# Altium footprint library MX-53261.PcbLib: 6 footprints
Each footprint in its own frame and in the unit in brackets; x right, y up, seen from the top. Pads: shape width x height; smd on the part's side, far side on the other; paste and mask are expansions set on the pad; w line width, h text height; cw(c..) or ccw(c..) is an arc to the next point about the centre after c.
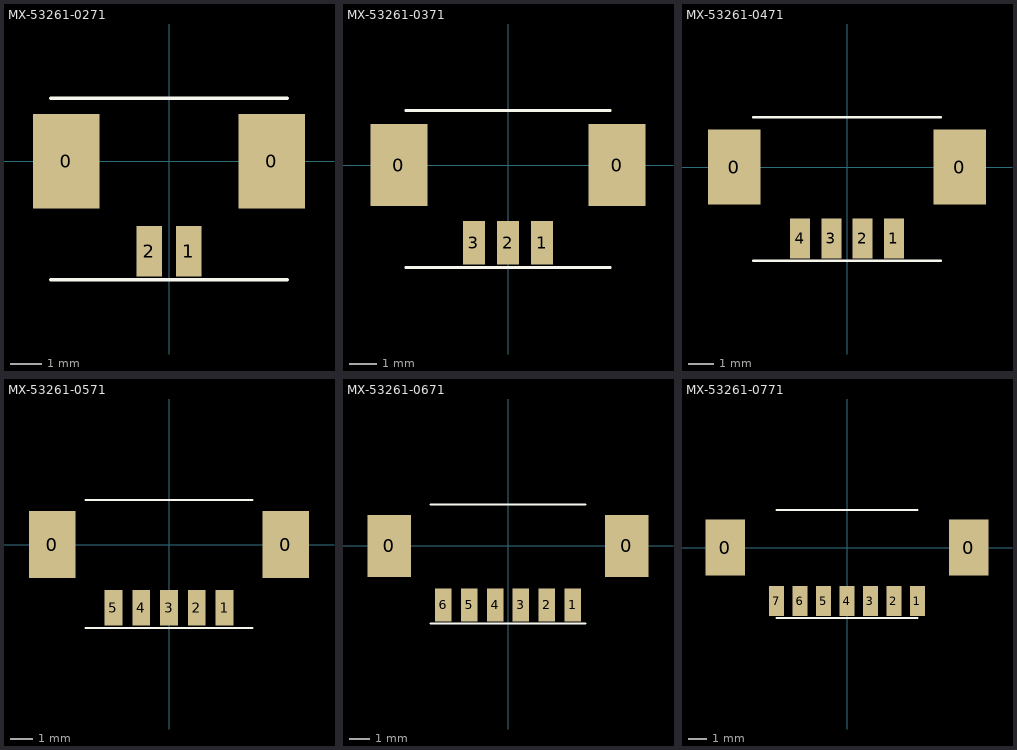
[diagram p0: the footprints below, top view; thin cyan lines are the x and y axes]

## MX-53261-0271 [mm]
pads (4):
  rect 2.1x3 smd: 0(-3.25,0) 0(3.25,0)
  rect 0.8x1.6 smd: 1(0.625,-2.85) 2(-0.625,-2.85)
Top Overlay:
  lines w0.1: -3.75,-3.75 3.75,-3.75 ; -3.75,2 3.75,2
3D body: height 3.4, standoff 0, extent -3.825,-3.1 3.825,2.1

## MX-53261-0371 [mm]
pads (5):
  rect 2.1x3 smd: 0(-4,0) 0(4,0)
  rect 0.8x1.6 smd: 1(1.25,-2.85) 2(0,-2.85) 3(-1.25,-2.85)
Top Overlay:
  lines w0.1: -3.75,-3.75 3.75,-3.75 ; -3.75,2 3.75,2
3D body: height 3.4, standoff 0, extent -4.45,-3.1 4.45,2.1

## MX-53261-0471 [mm]
pads (6):
  rect 2.1x3 smd: 0(-4.5,0) 0(4.5,0)
  rect 0.8x1.6 smd: 1(1.875,-2.85) 2(0.625,-2.85) 3(-0.625,-2.85) 4(-1.875,-2.85)
Top Overlay:
  lines w0.1: -3.75,-3.75 3.75,-3.75 ; -3.75,2 3.75,2
3D body: height 3.4, standoff 0, extent -5.075,-3.1 5.075,2.1

## MX-53261-0571 [mm]
pads (7):
  rect 2.1x3 smd: 0(-5.25,0) 0(5.25,0)
  rect 0.8x1.6 smd: 1(2.5,-2.85) 2(1.25,-2.85) 3(0,-2.85) 4(-1.25,-2.85) 5(-2.5,-2.85)
Top Overlay:
  lines w0.1: -3.75,-3.75 3.75,-3.75 ; -3.75,2 3.75,2
3D body: height 3.4, standoff 0, extent -5.7,-3.1 5.7,2.1

## MX-53261-0671 [mm]
pads (8):
  rect 2.1x3 smd: 0(-5.75,0) 0(5.75,0)
  rect 0.8x1.6 smd: 1(3.125,-2.85) 2(1.875,-2.85) 3(0.625,-2.85) 4(-0.625,-2.85) 5(-1.875,-2.85) 6(-3.125,-2.85)
Top Overlay:
  lines w0.1: -3.75,-3.75 3.75,-3.75 ; -3.75,2 3.75,2
3D body: height 3.4, standoff 0, extent -6.325,-3.1 6.325,2.1

## MX-53261-0771 [mm]
pads (9):
  rect 2.1x3 smd: 0(-6.5,0) 0(6.5,0)
  rect 0.8x1.6 smd: 1(3.75,-2.85) 2(2.5,-2.85) 3(1.25,-2.85) 4(0,-2.85) 5(-1.25,-2.85) 6(-2.5,-2.85) 7(-3.75,-2.85)
Top Overlay:
  lines w0.1: -3.75,-3.75 3.75,-3.75 ; -3.75,2 3.75,2
3D body: height 3.4, standoff 0, extent -6.95,-3.1 6.95,2.1